# EAGLE library part 25AA02E48 (library IC & Transistor)
SMD SPI EEPROM 25AA02E8
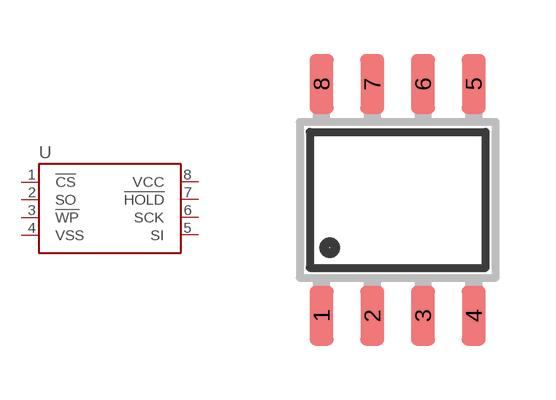
[diagram p44: symbol with the pads of SOIC-08N; footprint SOIC-08N]

Designator prefix -

## 25AA02E48_(SOIC_08N) (CYTRON-PC: S-IC-25AA02E48-SO8; DESC: S SPI EEPROM 25AA02E48 SO8; MF: MICROCHIP; MPN: 25AA02E48-I/SN)  [SOIC-08N]
1  !CS
2  SO
3  !WP
4  VSS
5  SI
6  SCK
7  !HOLD
8  VCC

## Footprint SOIC-08N (pad centres in mm)
Small Outline Integrated Circuit (SOIC) Narrow (JEDEC) SOIC Package Size: 4.9mm x 3.9mm Lead Pitch: 1.27mm
smd 0.6 x 1.5: 1 -1.905,-2.9; 2 -0.635,-2.9; 3 0.635,-2.9; 4 1.905,-2.9; 5 1.905,2.9; 6 0.635,2.9; 7 -0.635,2.9; 8 -1.905,2.9